# Altium footprint library Connector.PcbLib: 45 footprints (part 3 of 3)
Each footprint in its own frame and in the unit in brackets; x right, y up, seen from the top. Pads: shape width x height; smd on the part's side, far side on the other; paste and mask are expansions set on the pad; w line width, h text height; cw(c..) or ccw(c..) is an arc to the next point about the centre after c.
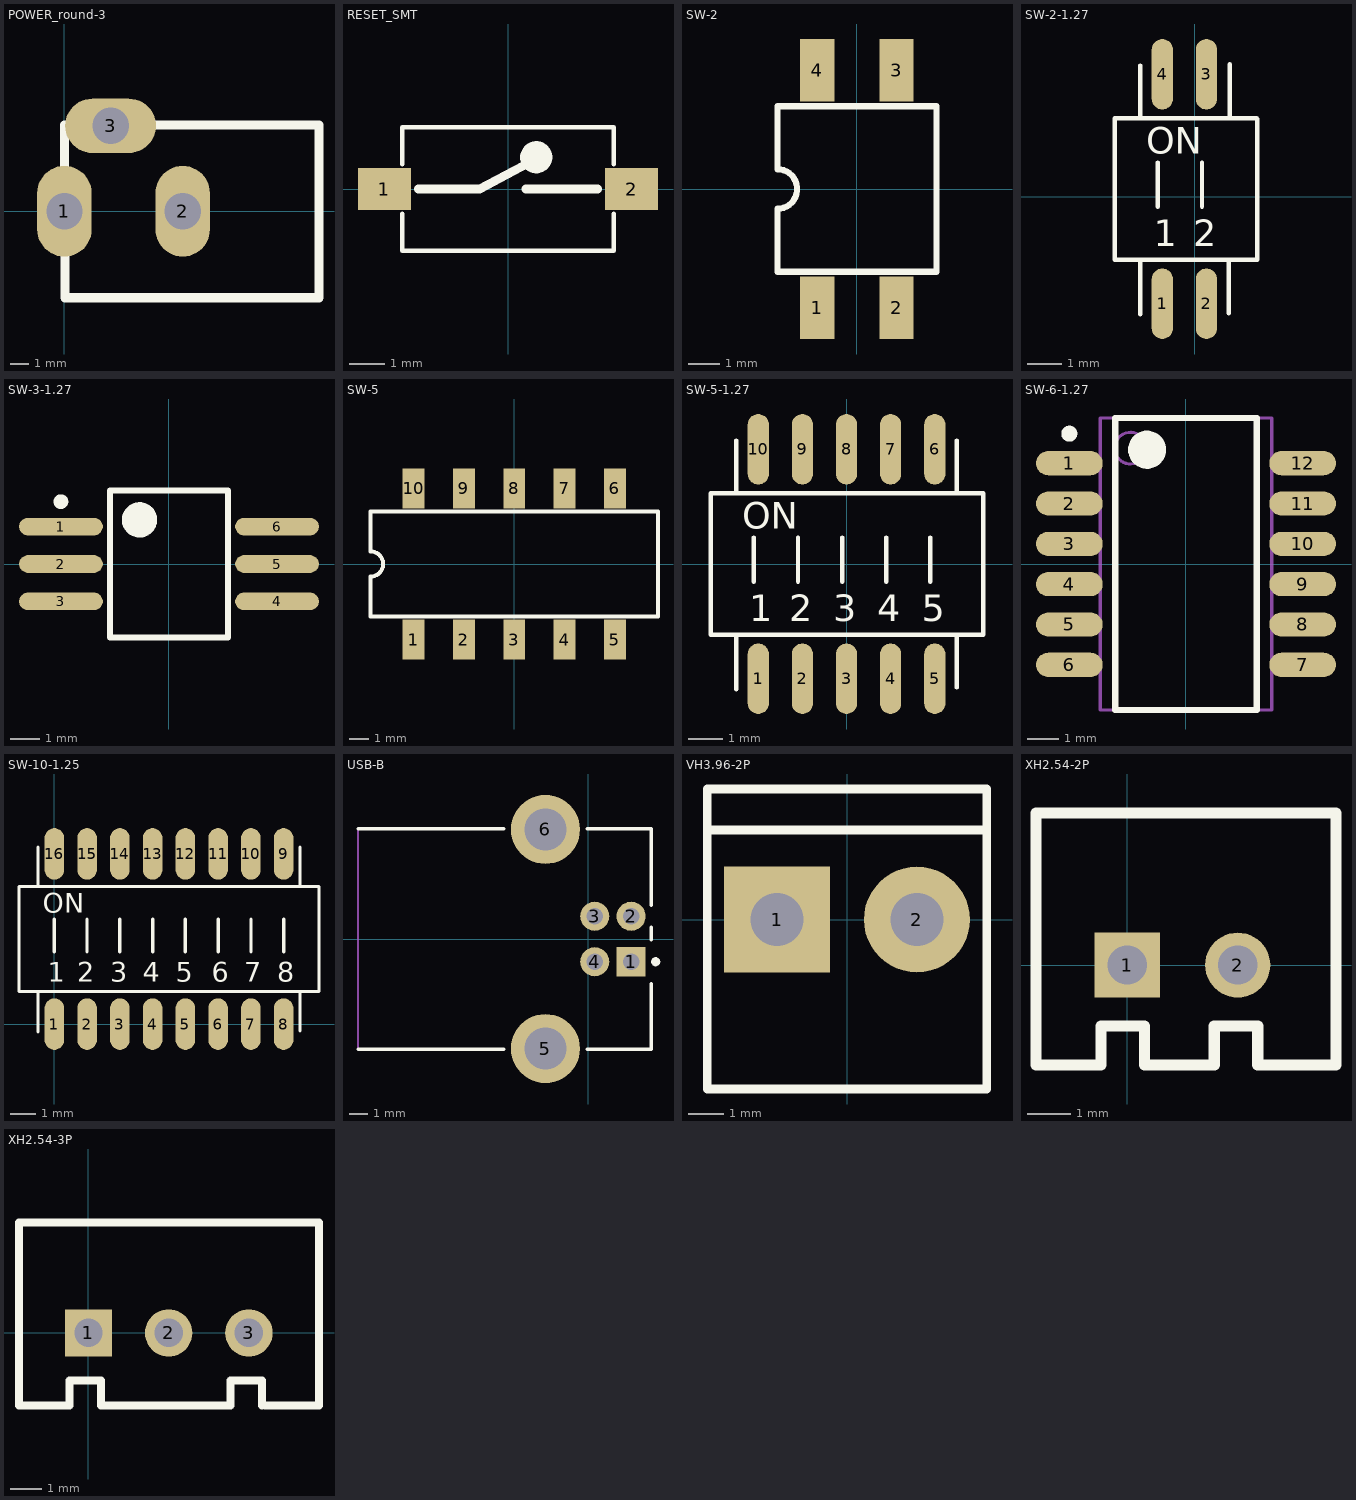
[diagram p2: the footprints below, top view; thin cyan lines are the x and y axes]

## POWER_round-3 [mm]
pads (3):
  oval 3x5 hole 2: 1(0,0) 2(6.5,0)
  oval 5x3 hole 2: 3(2.54,4.7)
Top Overlay:
  lines w0.508: 0,2.125 0,4.725 ; 0,4.75 0.229,4.75 ; 0.025,-2.25 0.025,-4.75 14,-4.75 14,4.7 ; 4.902,4.75 14,4.75

## RESET_SMT [mm]
height 1.524
pads (2):
  rect 1.5x1.2 smd: 1(-3.5,0) 2(3.5,0)
Top Overlay:
  circle w0.508: c0.8,0.9 r0.2
  lines w0.127: -3,-0.7 -3,-1.75 3,-1.75 3,-0.7 ; -3,0.7 -3,1.75 3,1.75 3,0.7
  lines w0.254: -2.54,0 -0.8,0 0.7,0.8 ; 0.508,0 2.54,0

## SW-2 [mm]
pads (4):
  rect 1.1x2 smd: 1(-1.27,-3.81) 2(1.27,-3.81) 3(1.27,3.81) 4(-1.27,3.81)
Top Overlay:
  lines w0.2: -2.55,-2.65 2.55,-2.65 2.55,2.65 -2.55,2.65 -2.55,0.635 cw(c-2.55,0) -2.55,-0.635 -2.55,-2.65

## SW-2-1.27 [mm]
pads (4):
  oval 0.61x2.032 smd: 1(-0.94,-3.077) 2(0.33,-3.077) 3(0.33,3.527) 4(-0.94,3.527)
Top Overlay:
  lines w0.127: -1.575,-3.382 -1.575,-1.858 ; -1.575,2.257 -1.575,3.781 ; -1.067,-0.283 -1.067,0.987 ; 0.203,-0.283 0.203,0.987 ; 0.975,-3.356 0.975,-1.832 ; 1,2.294 1,3.818 ; -2.31,-1.807 1.793,-1.807 1.793,2.239 1.775,2.257 -2.31,2.257 -2.31,-1.807
  text "2" at -0.051,-1.426 h0.76
  text "1" at -1.194,-1.426 h0.76
  text "ON" at -1.397,1.241 h0.76

## SW-3-1.27 [mm]
height 2.65
pads (6):
  oval 2.85x0.6 smd: 1(-3.675,1.27) 2(-3.675,0) 3(-3.675,-1.27) 4(3.675,-1.27) 5(3.675,0) 6(3.675,1.27)
Top Overlay:
  circle w0.25: c-3.675,2.12 r0.125
  circle w0.6: c-1,1.5 r0.3
  lines w0.2: -2,-2.5 -2,2.5 2,2.5 2,-2.5 -2,-2.5

## SW-5 [mm]
pads (10):
  rect 1.1x2 smd: 1(-5.08,-3.81) 2(-2.54,-3.81) 3(0,-3.81) 4(2.54,-3.81) 5(5.08,-3.81) 6(5.08,3.81) 7(2.54,3.81) 8(0,3.81) 9(-2.54,3.81) 10(-5.08,3.81)
Top Overlay:
  lines w0.2: -7.25,-2.65 -7.25,-0.635 ccw(c-7.25,0) -7.25,0.635 -7.25,2.65 7.25,2.65 7.25,-2.65 -7.25,-2.65

## SW-5-1.27 [mil]
pads (10):
  oval 24x80 smd: 1(-100,-130)
  oval 24.02x80 smd: 2(-50,-130) 3(0,-130) 4(50,-130) 5(100,-130) 6(100,130) 7(50,130) 8(0,130) 9(-50,130) 10(-100,130)
Top Overlay:
  lines w5: -125,-142 -125,-82 ; -125,80 -125,140 ; -105,-20 -105,30 ; -55,-20 -55,30 ; -5,-20 -5,30 ; 45,-20 45,30 ; 95,-20 95,30 ; 125,-140 125,-80 ; 125,80 125,140 ; -153.94,-80 155,-80 155,80 -153.94,80 -153.94,-80
  text "5" at 85,-65 h30
  text "4" at 35,-65 h30
  text "3" at -15,-65 h30
  text "2" at -65,-65 h30
  text "1" at -110,-65 h30
  text "ON" at -118,40 h30

## SW-6-1.27 [mm] "SOP, 12-Leads, Body 9.2x5.4mm (max), Pitch 1.27mm, IPC Medium Density"
height 2.3
pads (12):
  oval 2.1x0.76 smd: 1(-3.675,3.175) 2(-3.675,1.905) 3(-3.675,0.635) 4(-3.675,-0.635) 5(-3.675,-1.905) 6(-3.675,-3.175) 7(3.675,-3.175) 8(3.675,-1.905) 9(3.675,-0.635) 10(3.675,0.635) 11(3.675,1.905) 12(3.675,3.175)
Top Overlay:
  circle w0.6: c-1.225,3.6 r0.3
  circle w0.25: c-3.675,4.105 r0.125
  lines w0.2: -2.225,-4.6 2.225,-4.6 2.225,4.6 -2.225,4.6 -2.225,-4.6
Mechanical 13:
  circle w0.1: c-1.75,3.65 r0.5
  lines w0.1: -2.7,-4.6 2.7,-4.6 2.7,4.6 -2.7,4.6 -2.7,-4.6

## SW-10-1.25 [mm]
pads (16):
  oval 0.76x2 smd: 1(0,0) 2(1.27,0) 3(2.54,0) 4(3.81,0) 5(5.08,0) 6(6.35,0) 7(7.62,0) 8(8.89,0) 9(8.89,6.604) 10(7.62,6.604) 11(6.35,6.604) 12(5.08,6.604) 13(3.81,6.604) 14(2.54,6.604) 15(1.27,6.604) 16(0,6.604)
Top Overlay:
  lines w0.127: -0.635,-0.305 -0.635,1.219 ; -0.635,5.334 -0.635,6.858 ; 0,2.794 0,4.064 ; 1.27,2.794 1.27,4.064 ; 2.54,2.794 2.54,4.064 ; 3.81,2.794 3.81,4.064 ; 5.08,2.794 5.08,4.064 ; 6.35,2.794 6.35,4.064 ; 7.62,2.794 7.62,4.064 ; 8.89,2.794 8.89,4.064 ; 9.525,-0.254 9.525,1.27 ; 9.525,5.334 9.525,6.858 ; -1.37,1.27 -1.37,5.334 10.26,5.334 10.26,1.27 -1.37,1.27
  text "8" at 8.636,1.651 h0.76
  text "7" at 7.366,1.651 h0.76
  text "6" at 6.096,1.651 h0.76
  text "ON" at -0.457,4.318 h0.76
  text "1" at -0.254,1.651 h0.76
  text "2" at 0.889,1.651 h0.76
  text "3" at 2.159,1.651 h0.76
  text "4" at 3.429,1.651 h0.76
  text "5" at 4.699,1.651 h0.76

## USB-B [mm]
pads (6):
  rect 1.6x1.6 hole 0.92: 1(2.355,-1.25)
  round 1.6 hole 0.92: 2(2.355,1.25) 3(0.355,1.25) 4(0.355,-1.25)
  round 3.8 hole 2.3: 5(-2.355,-6.02) 6(-2.355,6.02)
Top Overlay:
  circle w0.25: c3.705,-1.25 r0.125
  lines w0.2: -12.635,-6.05 -4.655,-6.05 ; -12.635,6.05 -4.655,6.05 ; -0.055,-6.05 3.465,-6.05 3.465,-2.45 ; -0.055,6.05 3.465,6.05 3.465,1.85 ; 3.465,-0.05 3.465,0.65
Mechanical 1:
  lines w0.1: -12.655,-6.05 -12.655,6.05
  text "PCB Edge" at -12.33,5.651 h0.76

## VH3.96-2P [mm]
pads (2):
  rect 3x3 hole 1.5: 1(-1.98,0)
  round 3 hole 1.5: 2(1.98,0)
Top Overlay:
  lines w0.254: -3.96,2.54 3.96,2.54 ; -3.96,-4.8 3.96,-4.8 3.96,3.7 -3.96,3.7 -3.96,-4.8

## XH2.54-2P [mm]
pads (2):
  rect 1.5x1.5 hole 0.9: 1(0,0)
  round 1.5 hole 0.9: 2(2.54,0)
Top Overlay:
  lines w0.254: -0.6,-1.4 -0.6,-2.3 -2.1,-2.3 -2.1,3.5 4.8,3.5 4.8,-2.3 3,-2.3 3,-1.4 2,-1.4 2,-2.3 0.4,-2.3 0.4,-1.4 -0.6,-1.4 ; -0.6,-1.4 -0.6,-1.4

## XH2.54-3P [mm]
height 6.6
pads (3):
  rect 1.5x1.5 hole 0.9: 1(0,0)
  round 1.5 hole 0.9: 2(2.54,0) 3(5.08,0)
Top Overlay:
  lines w0.254: 5.5,-2.3 5.5,-1.5 4.5,-1.5 4.5,-2.3 0.4,-2.3 0.4,-1.5 -0.6,-1.5 -0.6,-2.3 -2.2,-2.3 -2.2,3.5 7.3,3.5 7.3,-2.3 5.6,-2.3